# Altium schematic symbol library Blue Tractor-2021.SchLib: 18 symbols
Pins are listed as number, name and electrical type; pins without a type are passive.

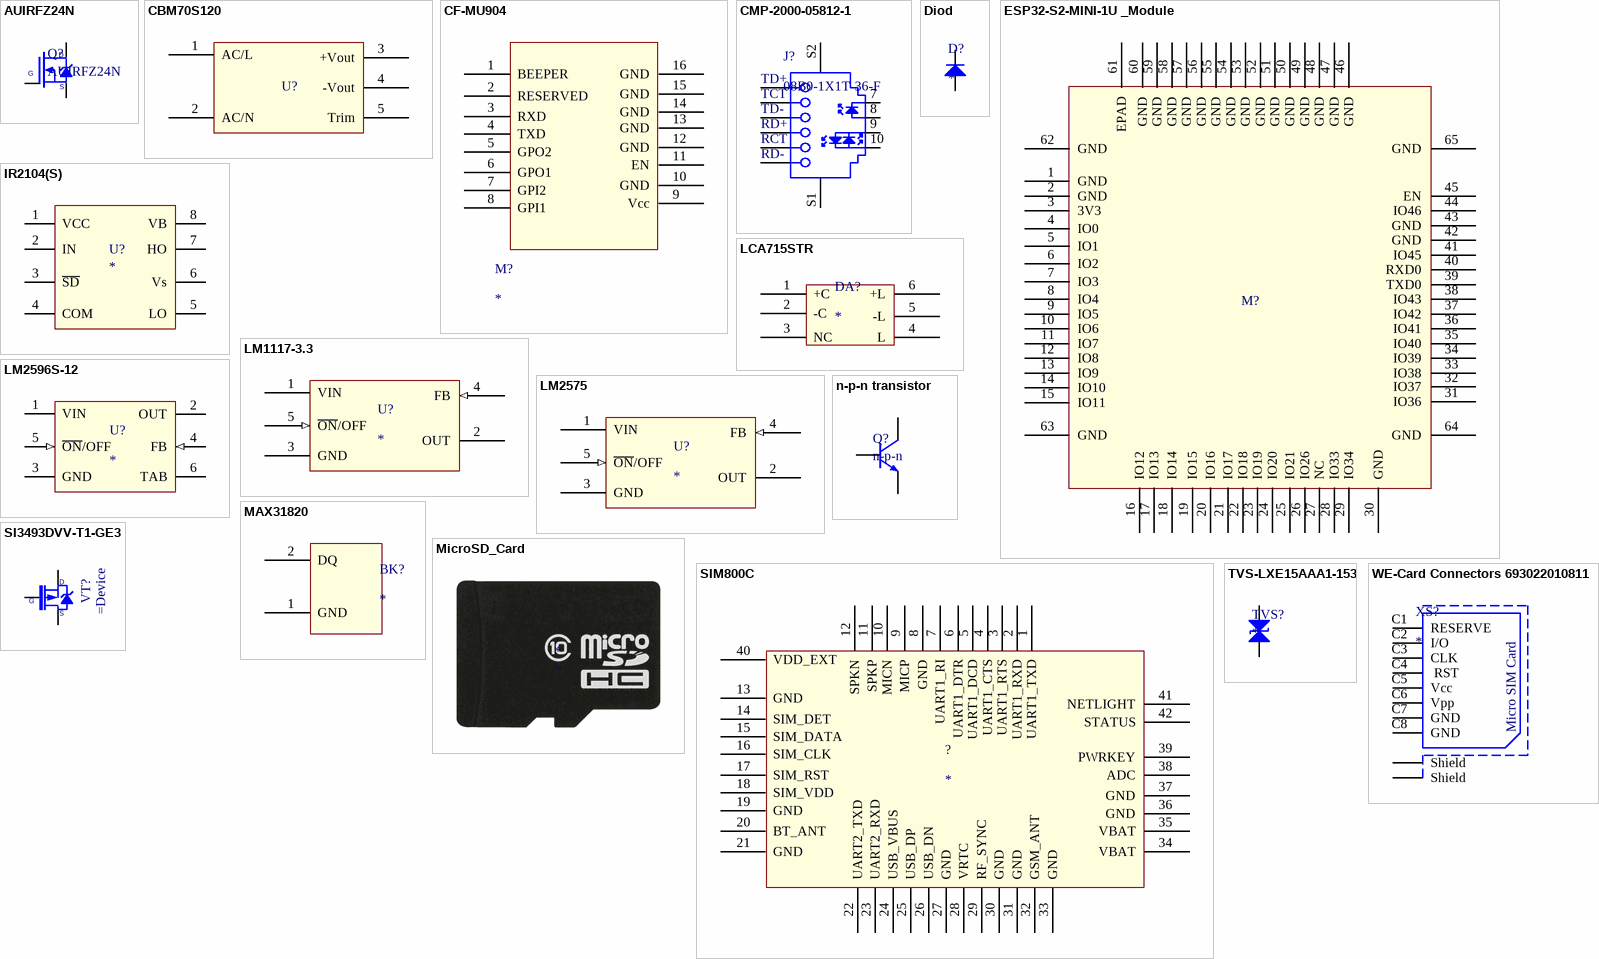
[diagram p0: symbols AUIRFZ24N to WE-Card Connectors 693022010811]

## AUIRFZ24N
designator Q?
N-Chanel MOSFET AUIRFZ24N
pins: 15 PG, 16, 17
text: D; G; S

## CBM70S120
designator U?
AC-DC ~230-12
pins: 1 AC/L (power), 2 AC/N (power), 3 +Vout (power), 4 -Vout (power), 5 Trim

## CF-MU904
designator M?
pins: 1 BEEPER (power), 2 RESERVED, 3 RXD, 4 TXD, 5 GPO2, 6 GPO1, 7 GPI2, 8 GPI1, 9 Vcc (power), 10 GND (power), 11 EN (power), 12 GND (power), 13 GND (power), 14 GND (power), 15 GND (power), 16 GND (power)

## CMP-2000-05812-1
designator J?, comment 08B0-1X1T-36-F
MagJack RJ45 Receptacle, Right Angle, -40 to 85 degC, 10-Pin THD, RoHS, Tray; Manufacturer: Bel Fuse; Number of Ports: 1; Shielding: Shielded,EMIFinger; Number of Cores per Jack: 4; Catalog Drawings: MagJackICM; LED Color: Green,Orange-Yellow; Tab Direction: Up; Shield Material: CopperAlloy; Featured Product: Bel-MagJackIntegratedConnectorModulesConnectivitySolutionsMagneticsSolutions; Online Catalog: MagJack®Series; Other Names: 08B01X1T36-F08B01X1T36F507-1446; Product Training Modules: MagJack®IntegratedMagneticsModularJacks; Datasheet Version: Rev. C, 01/2014; Family: ModularConnectors-JacksWithMagnetics; Series: MagJack®; Mounting Type: ThroughHole; Package Reference: 08B0-1X1T-36-F; Datasheet URL: http://belfuse.com/pdfs/08B0-1X1T-36-F.pdf; Applications: 10/100Base-T,AutoMDIX; Connector Type: RJ45; Category: Connectors,Interconnects; Mounting Technology: ThroughHole; Housing Material: PolybutyleneTerephthalate(PBT); Package Description: 10-Pin Through Hole Device, Body 26.17 x 19.11 mm; Contact Material: -; Manufacturer URL: http://belfuse.com/; Termination: Solder; Contact Finish Thickness: 15µin(0.38µm); Packaging: Tray; Standard Package: 60; Features: BoardGuide; Operating Temperature: -40°C~85°C; Height Above Board: 0.531"(13.50mm); Orientation: 90°Angle(Right); Contact Finish: Gold; Number of Rows: 1
footprint BELF-08B0-1X1T-36-F_V (RJ45, 10-Leads, Body 26.17x19.11mm)
footprint BELF-08B0-1X1T-36-F_V (RJ45, 10-Leads, Body 26.17x19.11mm)
pins: 1 TD+, 2 TCT, 3 TD-, 4 RD+, 5 RCT, 6 RD-, 7, 8, 9, 10, S1, S2

## Diod
designator D?
1N4005
pins: 16, 16

## ESP32-S2-MINI-1U _Module
designator M?  (value not drawn)
Wi-Fi module; Datasheet: https://www.espressif.com/en/support/download/documents
pins: 1 GND (power), 2 GND (power), 3 3V3 (power), 4 IO0, 5 IO1, 6 IO2, 7 IO3, 8 IO4, 9 IO5, 10 IO6, 11 IO7, 12 IO8, 13 IO9, 14 IO10, 15 IO11, 16 IO12, 17 IO13, 18 IO14, 19 IO15, 20 IO16, 21 IO17, 22 IO18, 23 IO19, 24 IO20, 25 IO21, 26 IO26, 27 NC, 28 IO33, 29 IO34, 30 GND (power), 31 IO36, 32 IO37, 33 IO38, 34 IO39, 35 IO40, 36 IO41, 37 IO42, 38 IO43, 39 TXD0, 40 RXD0, 41 IO45, 42 GND, 43 GND, 44 IO46, 45 EN (power), 46 GND (power), 47 GND (power), 48 GND (power), 49 GND (power), 50 GND (power), 51 GND (power), 52 GND (power), 53 GND (power), 54 GND (power), 55 GND (power), 56 GND (power), 57 GND (power), 58 GND (power), 59 GND (power), 60 GND (power), 61 EPAD (power), 62 GND (power), 63 GND, 64 GND, 65 GND (power)

## IR2104(S)
designator U?
pins: 1 VCC (power), 2 IN, 3 ~{SD}, 4 COM (power), 5 LO, 6 Vs (power), 7 HO, 8 VB (power)

## LCA715STR
designator DA?
LCA715S-TTP
pins: 1 +C (power), 2 -C (power), 3 NC (power), 4 L (power), 5 -L (power), 6 +L (power)

## LM1117-3.3
designator U?
pins: 1 VIN (power), 2 OUT (power), 3 GND (power), 4 FB (in), 5 ~{ON}/OFF (in)

## LM2575
designator U?
pins: 1 VIN (power), 2 OUT (power), 3 GND (power), 4 FB (in), 5 ~{ON}/OFF (in)

## LM2596S-12
designator U?
pins: 1 VIN (power), 2 OUT (power), 3 GND (power), 4 FB (in), 5 ~{ON}/OFF (in), 6 TAB (power)

## MAX31820
designator BK?
MAX31820PAR  temper sensor
pins: 1 GND (power), 2 DQ (power)

## MicroSD_Card
designator *  (graphical)

## n-p-n transistor
designator Q?, comment n-p-n
pins: 15 PG, 16, 17

## SI3493DVV-T1-GE3
designator VT?
P-Channel 20-V MOSFET
pins: 15 PG, 16, 17
text: D; G; S

## SIM800C
designator ?
GSM/GPS module
pins: 1 UART1_TXD (power), 2 UART1_RXD (power), 3 UART1_RTS (power), 4 UART1_CTS, 5 UART1_DCD, 6 UART1_DTR, 7 UART1_RI, 8 GND, 9 MICP, 10 MICN, 11 SPKP, 12 SPKN, 13 GND, 14 SIM_DET, 15 SIM_DATA, 16 SIM_CLK, 17 SIM_RST, 18 SIM_VDD, 19 GND, 20 BT_ANT, 21 GND, 22 UART2_TXD, 23 UART2_RXD, 24 USB_VBUS, 25 USB_DP, 26 USB_DN, 27 GND, 28 VRTC, 29 RF_SYNC, 30 GND, 31 GND, 32 GSM_ANT, 33 GND (power), 34 VBAT (power), 35 VBAT (power), 36 GND (power), 37 GND (power), 38 ADC (power), 39 PWRKEY (power), 40 VDD_EXT (power), 41 NETLIGHT (power), 42 STATUS (power)

## TVS-LXE15AAA1-153
designator TVS?
pins: 16, 16

## WE-Card Connectors 693022010811
designator XS?
WR-CRD Micro SIM_Hinge_8 pins; Manufacturer: Würth Elektronik eiSos GmbH; partNo: 693022010811; ComponentLink1 Description: Manufacturer; ComponentLink2 Description: Datasheet; NoPins: 8; ComponentLink1URL: http://www.we-online.de; ComponentLink2URL: http://katalog.we-online.de/em/datasheet/693022010811.pdf; Created by: Karrer Zheng; Created Date: 10/20/2014
footprint 693022010811
pins: C1 RESERVE, C2 I/O , C3 CLK, C4  RST, C5 Vcc, C6 Vpp, C7 GND, C8 GND, Z1 Shield, Z2 Shield
text: Micro SIM Card